# EAGLE library part ?M10B-SRSS-TB (library jack_connector)
Disconnectable Crimp style connector, 1.0mm pitch 10 contacts
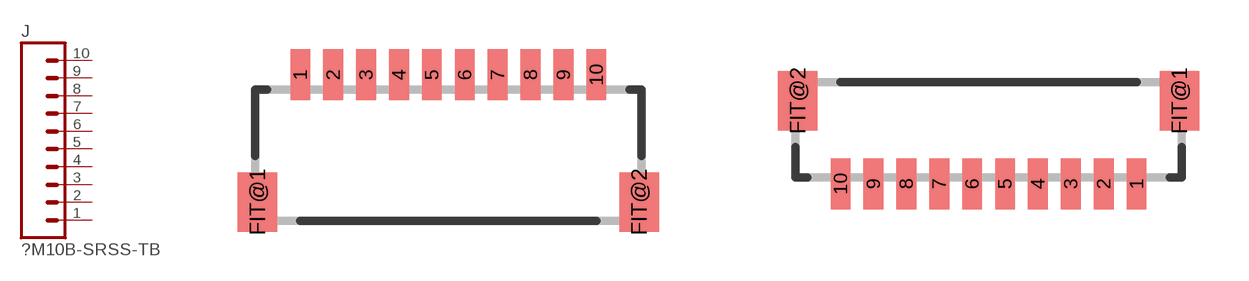
[diagram p9: symbol with the pads of SM10B-SRSS-TB; footprints SM10B-SRSS-TB, BM10B-SRSS-TB]

Designator prefix J

## SM10B-SRSS-TB  [SM10B-SRSS-TB]
1  1  pas
2  2  pas
3  3  pas
4  4  pas
5  5  pas
6  6  pas
7  7  pas
8  8  pas
9  9  pas
10  10  pas

## BM10B-SRSS-TB  [BM10B-SRSS-TB]
Pads as for SM10B-SRSS-TB

## Footprint SM10B-SRSS-TB (pad centres in mm)
Shrouded Header, side entry type https://www.digikey.com/product-detail/en/jst-sales-america-inc/SM10B-SRSS-TB-LF-SN/455-1810-1-ND/926881
smd 0.6 x 1.55: 1 -4.5,2.975; 2 -3.5,2.975; 3 -2.5,2.975; 4 -1.5,2.975; 5 -0.5,2.975; 6 0.5,2.975; 7 1.5,2.975; 8 2.5,2.975; 9 3.5,2.975; 10 4.5,2.975
smd 1.2 x 1.8: FIT@1 -5.8,-0.9; FIT@2 5.8,-0.9

## Footprint BM10B-SRSS-TB (pad centres in mm)
Shrouded Header, top entry type https://www.digikey.com/product-detail/en/jst-sales-america-inc/BM10B-SRSS-TB-LF-SN/455-1796-1-ND/926867
smd 0.6 x 1.55: 1 4.5,-1.625; 2 3.5,-1.625; 3 2.5,-1.625; 4 1.5,-1.625; 5 0.5,-1.625; 6 -0.5,-1.625; 7 -1.5,-1.625; 8 -2.5,-1.625; 9 -3.5,-1.625; 10 -4.5,-1.625
smd 1.2 x 1.8: FIT@1 5.8,0.9; FIT@2 -5.8,0.9